# EAGLE library part STM32F042G6U (library Controller)
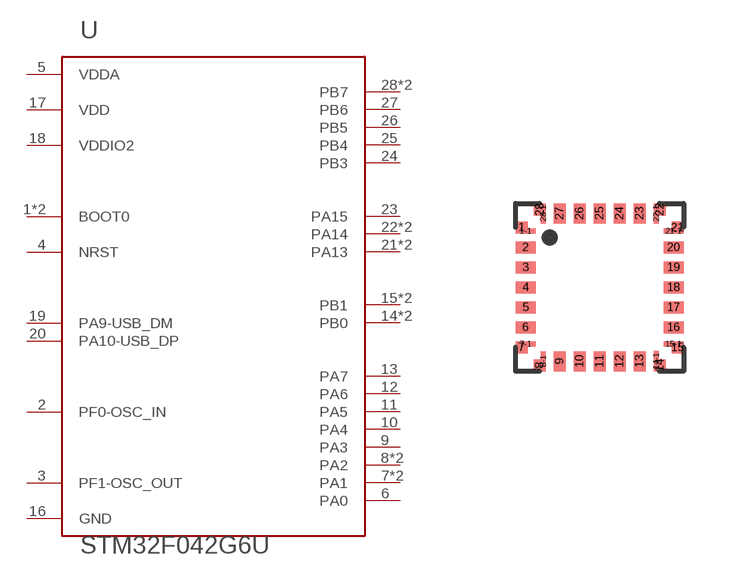
[diagram p12: symbol with the pads of UFQFPN-28; footprint UFQFPN-28]

Designator prefix U

## STM32F042G6UG6U  [UFQFPN-28]
1  BOOT0
1-1  BOOT0
2  PF0-OSC_IN
3  PF1-OSC_OUT
4  NRST
5  VDDA
6  PA0
7  PA1
7-1  PA1
8  PA2
8-1  PA2
9  PA3
10  PA4
11  PA5
12  PA6
13  PA7
14  PB0
14-1  PB0
15  PB1
15-1  PB1
16  GND
17  VDD
18  VDDIO2
19  PA9-USB_DM
20  PA10-USB_DP
21  PA13
21-1  PA13
22  PA14
22-1  PA14
23  PA15
24  PB3
25  PB4
26  PB5
27  PB6
28  PB7
28-1  PB7

## Footprint UFQFPN-28 (pad centres in mm)
smd 0.3 x 0.3: 1 -1.95,1.5; 7 -1.95,-1.5; 8 -1.5,-1.95; 14 1.5,-1.95; 15 1.95,-1.5; 21 1.95,1.5; 22 1.5,1.95; 28 -1.5,1.95
smd 0.5 x 0.125: 1-1 -1.85,1.413; 7-1 -1.85,-1.413; 15-1 1.85,-1.413; 21-1 1.85,1.413
smd 0.5 x 0.3: 2 -1.85,1; 3 -1.85,0.5; 4 -1.85,0; 5 -1.85,-0.5; 6 -1.85,-1; 16 1.85,-1; 17 1.85,-0.5; 18 1.85,0; 19 1.85,0.5; 20 1.85,1
smd 0.125 x 0.5: 8-1 -1.413,-1.85; 14-1 1.413,-1.848; 22-1 1.413,1.85; 28-1 -1.413,1.85
smd 0.3 x 0.5: 9 -1,-1.85; 10 -0.5,-1.85; 11 0,-1.85; 12 0.5,-1.85; 13 1,-1.85; 23 1,1.85; 24 0.5,1.85; 25 0,1.85; 26 -0.5,1.85; 27 -1,1.85